# Altium footprint library power_board_pcbblib.PcbLib: 45 footprints (part 1 of 3)
Each footprint in its own frame and in the unit in brackets; x right, y up, seen from the top. Pads: shape width x height; smd on the part's side, far side on the other; paste and mask are expansions set on the pad; w line width, h text height; cw(c..) or ccw(c..) is an arc to the next point about the centre after c.
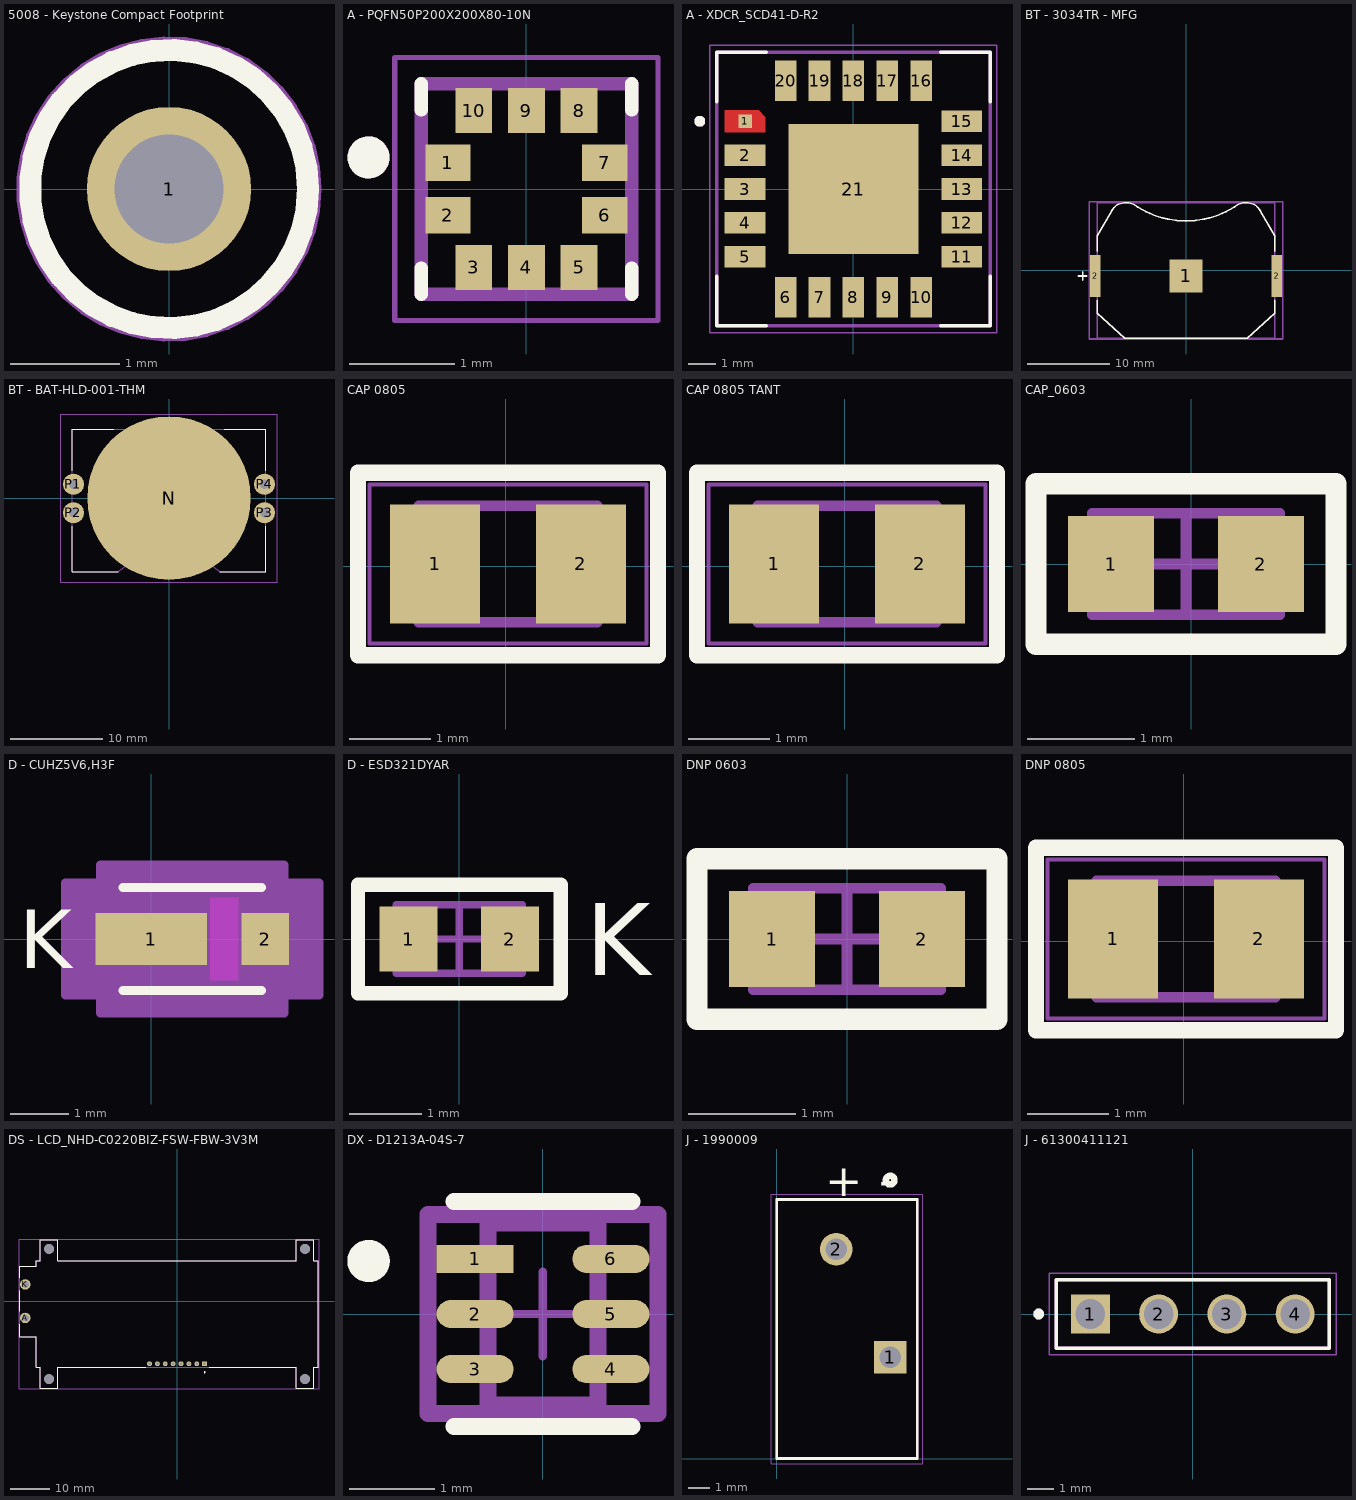
[diagram p0: the footprints below, top view; thin cyan lines are the x and y axes]

## 5008 - Keystone Compact Footprint [mm]
pads (1):
  round 1.5 hole 1: 1(0,0)
Top Overlay:
  circle w0.2: c0,0 r1.27
Mechanical 13:
  circle w0.1: c0,0 r1.27
Mechanical 15:
  circle w0.05: c0,0 r1.37
  lines w0.1: -0.5,0 0.5,0 ; 0,-0.5 0,0.5
3D body "User Library-Test Point Keystone - 5003 ORANGE.STEP": height 4.57, standoff -3.05, extent -1.27,-1.27 1.27,1.27

## A - PQFN50P200X200X80-10N [mm]
height 0.8
pads (10):
  rect 0.43x0.35 smd: 1(-0.745,0.25) 2(-0.745,-0.25) 6(0.745,-0.25) 7(0.745,0.25)
  rect 0.35x0.43 smd: 3(-0.5,-0.745) 4(0,-0.745) 5(0.5,-0.745) 8(0.5,0.745) 9(0,0.745) 10(-0.5,0.745)
Top Overlay:
  circle w0.2: c-1.5,0.3 r0.1
  lines w0.127: -1,-1 -1,-0.75 ; -1,0.75 -1,1 ; 1,-1 1,-0.75 ; 1,0.75 1,1
Mechanical 13:
  circle w0.2: c-1.5,0.3 r0.1
  lines w0.127: -1,-1 -1,1 1,1 1,-1 -1,-1
Mechanical 15:
  lines w0.05: -1.25,-1.25 -1.25,1.25 1.25,1.25 1.25,-1.25 -1.25,-1.25
3D body "step_temp.STEP": height 0.8, standoff 0, extent -1,-1 1,1

## A - XDCR_SCD41-D-R2 [mm]
height 6.8
pads (21):
  rect 0.5x0.5 smd paste-1 mask+0: 1(-4,2.5)
  rect 1.5x0.8 smd paste-0.125 mask+0.1: 2(-4,1.25) 3(-4,0) 4(-4,-1.25) 5(-4,-2.5) 11(4,-2.5) 12(4,-1.25) 13(4,0) 14(4,1.25) 15(4,2.5)
  rect 0.8x1.5 smd paste-0.125 mask+0.1: 6(-2.5,-4) 7(-1.25,-4) 8(0,-4) 9(1.25,-4) 10(2.5,-4) 16(2.5,4) 17(1.25,4) 18(0,4) 19(-1.25,4) 20(-2.5,4)
  rect 4.8x4.8 smd paste-3 mask+0.1: 21(0,0)
Top Layer:
  region: -3.25,2.65 -3.25,2.1 -4.75,2.1 -4.75,2.9 -3.5,2.9
Top Overlay:
  circle w0.2: c-5.673,2.5 r0.1
  lines w0.127: -5.05,-3.22 -5.05,-5.05 -3.22,-5.05 ; -5.05,3.22 -5.05,5.05 -3.22,5.05 ; 3.22,-5.05 5.05,-5.05 5.05,-3.22 ; 3.22,5.05 5.05,5.05 5.05,3.22
Top Paste:
  region: -0.35,0.35 -2.15,0.35 -2.15,2.15 -0.35,2.15
  region: 2.15,0.35 0.35,0.35 0.35,2.15 2.15,2.15
  region: 2.15,-2.15 0.35,-2.15 0.35,-0.35 2.15,-0.35
  region: -0.35,-2.15 -2.15,-2.15 -2.15,-0.35 -0.35,-0.35
  region: -3.375,2.595 -3.375,2.225 -4.625,2.225 -4.625,2.775 -3.555,2.775
Top Solder:
  region: -3.15,2.72 -3.15,2 -4.85,2 -4.85,3 -3.43,3
Mechanical 13:
  circle w0.2: c-5.673,2.5 r0.1
  lines w0.127: -5.05,-5.05 5.05,-5.05 5.05,5.05 -5.05,5.05 -5.05,-5.05
Mechanical 15:
  lines w0.05: -5.3,-5.3 -5.3,5.3 5.3,5.3 5.3,-5.3 -5.3,-5.3
3D body "step_temp.STEP": height 6.31, standoff 0, extent -5.05,-5.05 5.05,5.05

## BT - 3034TR - MFG [mil]
pads (3):
  rect 156x156 smd paste-39370.1 mask+0: 1(0,-26.5)
  rect 50x200 smd paste+0 mask+0: 2(-432.48,-26.5) 2(432.48,-26.5)
Top Overlay:
  lines w7.87: -511.81,-26.38 -472.44,-26.38 ; -492.13,-46.06 -492.13,-6.69 ; -422.44,-141.73 -422.44,-204.13 -291.34,-322.24 291.34,-322.24 422.44,-204.13 422.44,-141.73 ; -422.44,90.55 -422.44,164.96 -354.33,283.07 cw(c-288.45,247.65) -287.4,322.44 cw(c-282.89,247.77) -249.21,314.57 ccw(c0,668.75) 249.21,314.57 cw(c282.89,247.77) 287.4,322.44 cw(c288.45,247.65) 354.33,283.07 422.44,164.96 422.44,90.55
Top 3D Body:
  lines w7.87: -422.5,-322.5 422.5,-322.5 422.5,322.5 -422.5,322.5 -422.5,-322.5
Top Courtyard:
  lines w7.87: -461.42,-326.44 461.42,-326.44 461.42,326.44 -461.42,326.44 -461.42,-326.44
Top Assembly:
  lines w7.87: -461.42,-326.44 461.42,-326.44 461.42,326.44 -461.42,326.44 -461.42,-326.44
  text ".Designator" at 0,7.39 h39.37
Top Component Center:
  lines w3.94: -19.68,0 19.68,0 ; 0,-19.68 0,19.68
3D body "Batt_Keystone_3034TR_eec.STEP": height 10, standoff 0, extent -461.42,-326.44 461.42,326.44

## BT - BAT-HLD-001-THM [mm]
pads (5):
  round 17.8 smd paste-10: N(0,0)
  round 2.3 hole 1: P1(-10.4,1.5) P2(-10.4,-1.6) P3(10.4,-1.6) P4(10.4,1.5)
Top Overlay:
  lines w0.127: -10.55,-3.07 -10.55,-8 -5.5,-8 ; -10.55,2.97 -10.55,7.5 -6,7.5 ; 5.5,-8 10.55,-8 10.55,-3.07 ; 6,7.5 10.55,7.5 10.55,2.97
Mechanical 13:
  lines w0.127: -5.558,-8.048 cw(c0.071,-14.756) 0.071,-6 ; -5.5,-8 -10.55,-8 -10.55,7.5 10.55,7.5 10.55,-8 5.5,-8 ; -0.071,-6 cw(c-0.071,-14.756) 5.558,-8.048
Mechanical 15:
  lines w0.05: -11.8,-9.15 -11.8,9.15 11.8,9.15 11.8,-9.15 -11.8,-9.15
3D body "step_temp.STEP": height 4.32, standoff -3.3, extent -10.541,-7.747 10.541,7.747

## CAP 0805 [mm]
pads (2):
  rect 1.11x1.47 smd: 1(-0.875,0.025) 2(0.925,0.025)
Top Overlay:
  lines w0.2: -1.825,-1.1 1.875,-1.1 1.875,1.15 -1.825,1.15 -1.825,-1.1
Mechanical 13:
  lines w0.127: -1.075,-0.695 1.125,-0.695 1.125,0.745 -1.075,0.745 -1.075,-0.695
Mechanical 15:
  lines w0.05: -1.683,-0.958 1.733,-0.958 1.733,1.008 -1.683,1.008 -1.683,-0.958
3D body "step_temp.STEP": height 1.45, standoff 0, extent -0.975,-0.6 1.025,0.65

## CAP 0805 TANT [mm]
pads (2):
  rect 1.11x1.47 smd: 1(-0.875,0.025) 2(0.925,0.025)
Top Overlay:
  lines w0.2: -1.825,-1.1 -1.825,1.15 1.875,1.15 1.875,-1.1 -1.825,-1.1
Mechanical 13:
  lines w0.127: -1.075,-0.695 -1.075,0.745 1.125,0.745 1.125,-0.695 -1.075,-0.695
Mechanical 15:
  lines w0.05: -1.683,-0.958 -1.683,1.008 1.733,1.008 1.733,-0.958 -1.683,-0.958
3D body "TCTP_ROM.step": height 1.24, standoff 0, extent -1.105,-0.724 1.105,0.724

## CAP_0603 [mm]
pads (2):
  rect 0.8x0.9 smd: 1(-0.75,0) 2(0.65,0)
Top Overlay:
  lines w0.2: -1.45,-0.75 -1.45,0.75 1.35,0.75 1.35,-0.75 -1.45,-0.75
Mechanical 13:
  lines w0.1: -0.925,-0.475 -0.925,0.475 0.825,0.475 0.825,-0.475 -0.925,-0.475
Mechanical 15:
  lines w0.1: -0.525,0 0.425,0 ; -0.05,-0.475 -0.05,0.475 ; -1.45,-0.75 1.35,-0.75 1.35,0.75 -1.45,0.75 -1.45,-0.75
3D body "Cap_AVX_0603YA0R5BAT2A_eec.STEP": height 0.25, standoff 0, extent -1.479,-0.734 1.479,0.734

## D - CUHZ5V6,H3F [mil]
pads (2):
  rect 75x35 smd paste+0 mask+0: 1(0,0)
  rect 32x35 smd paste+0 mask+0: 2(76.5,0)
Top Layer keep-out:
  region: 39.5,-27.5 39.5,27.5 58.5,27.5 58.5,-27.5
Top Overlay:
  lines w6: -19,-34.5 74,-34.5 ; -19,34.5 74,34.5
  text "K" at -88.67,-19.68 h39.37
Keep-Out Layer:
  region: 39.5,-27.5 39.5,27.5 58.5,27.5 58.5,-27.5
Mechanical 13:
  lines w1: -14,-14.75 0.75,-29.5 ; -14,14.75 0.75,29.5 ; -25.5,-16.5 -25.5,16.5 -14,16.5 -14,-16.5 -25.5,-16.5 ; -14,-29.5 69,-29.5 69,29.5 -14,29.5 -14,-29.5 ; 69,-16.5 69,16.5 80.5,16.5 80.5,-16.5 69,-16.5
  text "*" at -16.5,-25 h50
Mechanical 15:
  region: -34,-37.5 -57.5,-37.5 -57.5,37.5 -34,37.5 -34,49.5 89,49.5 89,37.5 112.5,37.5 112.5,-37.5 89,-37.5 89,-49.5 -34,-49.5
  lines w6: -57.5,-37.5 -57.5,37.5 -34,37.5 -34,49.5 89,49.5 89,37.5 112.5,37.5 112.5,-37.5 89,-37.5 89,-49.5 -34,-49.5 -34,-37.5 -57.5,-37.5
3D body "SOD-323HEUS2H_TOS.step": height 27.09, standoff 0, extent -25.49,-29.49 80.49,29.49

## D - ESD321DYAR [mm] "ESD321DYAR"
pads (2):
  rect 0.8x0.9 smd: 1(-0.7,0) 2(0.7,0)
Top Overlay:
  lines w0.2: -1.4,-0.75 1.4,-0.75 1.4,0.75 -1.4,0.75 -1.4,-0.75
  text "K" at 1.748,-0.5 h1
Mechanical 13:
  lines w0.1: -0.875,-0.475 0.875,-0.475 0.875,0.475 -0.875,0.475 -0.875,-0.475
Mechanical 15:
  lines w0.1: -0.475,0 0.475,0 ; 0,-0.475 0,0.475 ; -1.4,-0.75 -1.4,0.75 1.4,0.75 1.4,-0.75 -1.4,-0.75
3D body "SOT5x3_DYA_TEX.step": height 0.69, standoff 0, extent -0.851,-0.419 0.851,0.419

## DNP 0603 [mm]
pads (2):
  rect 0.8x0.9 smd: 1(-0.7,0) 2(0.7,0)
Top Overlay:
  lines w0.2: -1.4,-0.75 -1.4,0.75 1.4,0.75 1.4,-0.75 -1.4,-0.75
Mechanical 13:
  lines w0.1: -0.875,-0.475 -0.875,0.475 0.875,0.475 0.875,-0.475 -0.875,-0.475
Mechanical 15:
  lines w0.1: -0.475,0 0.475,0 ; 0,-0.475 0,0.475 ; -1.4,-0.75 1.4,-0.75 1.4,0.75 -1.4,0.75 -1.4,-0.75

## DNP 0805 [mm]
pads (2):
  rect 1.11x1.47 smd: 1(-0.875,0.025) 2(0.925,0.025)
Top Overlay:
  lines w0.2: -1.825,-1.1 -1.825,1.15 1.875,1.15 1.875,-1.1 -1.825,-1.1
Mechanical 13:
  lines w0.127: -1.075,-0.695 -1.075,0.745 1.125,0.745 1.125,-0.695 -1.075,-0.695
Mechanical 15:
  lines w0.05: -1.683,-0.958 -1.683,1.008 1.733,1.008 1.733,-0.958 -1.683,-0.958

## DS - LCD_NHD-C0220BIZ-FSW-FBW-3V3M [mm] "NHD-C0220BIZ-FSW-FBW-3V3M"
height 7.3
pads (14):
  rect 1.238x1.238 / inner round 1.238 / far side rect 1.238x1.238 hole 0.73: 1(7,-15.9)
  round 1.238 hole 0.73: 2(5,-15.9) 3(3,-15.9) 4(1,-15.9) 5(-1,-15.9) 6(-3,-15.9) 7(-5,-15.9) 8(-7,-15.9)
  round 2.655 hole 1.77: A(-38.55,-4.25) K(-38.55,4.25)
  round 2.5 hole 2.5 unplated: ""(-32.5,-19.8) ""(-32.5,13.3) ""(32.5,-19.8) ""(32.5,13.3)
Top Overlay:
  circle w0.2: c7,-18.059 r0.1
  lines w0.127: -39.9,-5.9 -39.9,-8.97 -35.8,-8.97 -35.8,-16.8 -34.75,-16.8 -34.75,-22.05 -30.25,-22.05 -30.25,-16.8 -8,-16.8 ; -39.9,-2.6 -39.9,2.6 ; -39.9,5.9 -39.9,8.83 -35.8,8.83 -35.8,10.3 -34.75,10.3 -34.75,15.55 -30.25,15.55 -30.25,10.3 30.25,10.3 30.25,15.55 34.75,15.55 34.75,10.3 35.8,10.3 35.8,-16.8 34.75,-16.8 34.75,-22.05 30.25,-22.05 30.25,-16.8 8.2,-16.8
Mechanical 13:
  circle w0.2: c7,-18.059 r0.1
  lines w0.127: -39.9,-8.97 -35.8,-8.97 -35.8,-16.8 -34.75,-16.8 -34.75,-22.05 -30.25,-22.05 -30.25,-16.8 30.25,-16.8 30.25,-22.05 34.75,-22.05 34.75,-16.8 35.8,-16.8 35.8,10.3 34.75,10.3 34.75,15.55 30.25,15.55 30.25,10.3 -30.25,10.3 -30.25,15.55 -34.75,15.55 -34.75,10.3 -35.8,10.3 -35.8,8.83 -39.9,8.83 -39.9,-8.97
Mechanical 15:
  lines w0.05: -40.15,-22.3 -40.15,15.8 36.05,15.8 36.05,-22.3 -40.15,-22.3
3D body "step_temp.STEP": height 7.3, standoff -4.7, extent -39.9,-22.075 35.8,15.525

## DX - D1213A-04S-7 [mm]
pads (6):
  rect 0.91x0.332 smd paste+0 mask+0: 1(-0.801,0.65)
  rrect100% 0.91x0.332 smd paste+0 mask+0: 2(-0.801,0) 3(-0.801,-0.65) 4(0.801,-0.65) 5(0.801,0) 6(0.801,0.65)
Top Overlay:
  circle w0.25: c-2.056,0.625 r0.125
  lines w0.2: -1.05,-1.325 1.05,-1.325 ; -1.05,1.325 1.05,1.325
Top 3D Body:
  lines w0.2: -0.65,-1.075 -0.65,1.075 0.65,1.075 0.65,-1.075 -0.65,-1.075
Board:
  lines w0.2: -1.356,-1.175 -1.356,1.175 1.356,1.175 1.356,-1.175 -1.356,-1.175
Top Assembly:
  lines w0.2: -1.356,-1.175 -1.356,1.175 1.356,1.175 1.356,-1.175 -1.356,-1.175
  text ".Designator" at 0,0.188 h1
Top Component Center:
  lines w0.1: -0.5,0 0.5,0 ; 0,-0.5 0,0.5
3D body "Trans_Diodes_BSS8402DW-7-F_eec.STEP": height 0.25, standoff 0, extent -1.356,-1.175 1.356,1.175

## J - 1990009 [mm]
pads (2):
  rect 1.508x1.508 / inner round 1.508 / far side rect 1.508x1.508 hole 1: 1(5.25,4.7)
  round 1.508 hole 1: 2(2.75,9.7)
Top Overlay:
  circle w0.3: c5.25,12.9 r0.2
  lines w0.127: 0,0 6.5,0 6.5,12 0,12 0,0
  text "+" at 2.25,12.15 h1.5
  text "-" at 4.75,12.15 h1.5
Mechanical 13:
  lines w0.127: 0,0 6.5,0 6.5,12 0,12 0,0
Mechanical 15:
  lines w0.05: -0.25,-0.25 6.75,-0.25 6.75,12.25 -0.25,12.25 -0.25,-0.25
3D body "1990009--3DModel-STEP-269445.STEP": height 13.11, standoff -3.49, extent -0.05,-0.014 6.45,11.986

## J - 61300411121 [mm]
pads (4):
  rect 1.45x1.45 / inner round 1.45 / far side rect 1.45x1.45 hole 1.1: 1(-3.81,0)
  round 1.45 hole 1.1: 2(-1.27,0) 3(1.27,0) 4(3.81,0)
Top Overlay:
  circle w0.2: c-5.73,0 r0.1
  lines w0.127: -5.08,-1.27 -5.08,1.27 5.08,1.27 5.08,-1.27 -5.08,-1.27
Mechanical 13:
  circle w0.2: c-5.73,0 r0.1
  lines w0.127: -5.08,-1.27 -5.08,1.27 5.08,1.27 5.08,-1.27 -5.08,-1.27
Mechanical 15:
  lines w0.05: -5.33,-1.52 -5.33,1.52 5.33,1.52 5.33,-1.52 -5.33,-1.52
3D body "step_temp.STEP": height 7.27, standoff -4.27, extent -5.08,-1.27 5.08,1.27